# Altium footprint library PHDR-2X13-TH-M.PcbLib: 1 footprints
Each footprint in its own frame and in the unit in brackets; x right, y up, seen from the top. Pads: shape width x height; smd on the part's side, far side on the other; paste and mask are expansions set on the pad; w line width, h text height; cw(c..) or ccw(c..) is an arc to the next point about the centre after c.
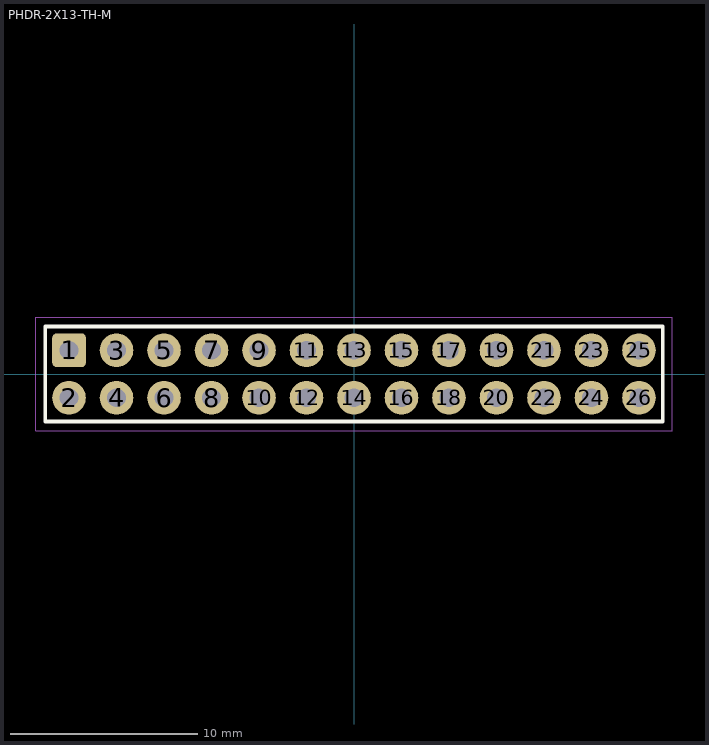
[diagram p0: the footprint, top view; thin cyan lines are the x and y axes]

## PHDR-2X13-TH-M [mm] "PinHeader 2x13 TH Pitch 2.54mm"
height 9.5
pads (26):
  rrect25% 1.8x1.8 hole 1: 1(-15.24,1.27)
  round 1.8 hole 1: 2(-15.24,-1.27) 3(-12.7,1.27) 4(-12.7,-1.27) 5(-10.16,1.27) 6(-10.16,-1.27) 7(-7.62,1.27) 8(-7.62,-1.27) 9(-5.08,1.27) 10(-5.08,-1.27) 11(-2.54,1.27) 12(-2.54,-1.27) 13(0,1.27) 14(0,-1.27) 15(2.54,1.27) 16(2.54,-1.27) 17(5.08,1.27) 18(5.08,-1.27) 19(7.62,1.27) 20(7.62,-1.27) 21(10.16,1.27) 22(10.16,-1.27) 23(12.7,1.27) 24(12.7,-1.27) 25(15.24,1.27) 26(15.24,-1.27)
Top Overlay:
  lines w0.2: -16.51,-2.54 -16.51,2.54 16.51,2.54 16.51,-2.54 -16.51,-2.54
Top Assembly:
  lines w0.1: -16.51,-2.54 16.51,-2.54 16.51,2.54 -16.51,2.54 -16.51,-2.54
Top Courtyard:
  lines w0.05: -17.018,-3.048 17.018,-3.048 17.018,3.048 -17.018,3.048 -17.018,-3.048
Top Designator:
  text ".Designator" at -7.498,-0.5 h1.5
3D body "Pin Header 2x13 TH Pitch 2.54mm.stp": height 9.5, standoff -3.2, extent -16.51,-2.54 16.51,2.54